# Altium schematic symbol library Indicators.SchLib: 1 symbol
Pins are listed as number, name and electrical type; pins without a type are passive.

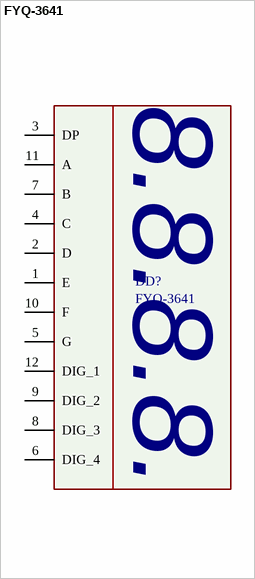
[diagram p0: symbol FYQ-3641]

## FYQ-3641
designator DD?
footprint INDIC: FYQ-3641
pins: 1 E, 2 D, 3 DP, 4 C, 5 G, 6 DIG_4, 7 B, 8 DIG_3, 9 DIG_2, 10 F, 11 A, 12 DIG_1
text: 8.8.8.8.